# Altium schematic symbol library PIC10F206.Schlib: 1 symbol
Pins are listed as number, name and electrical type; pins without a type are passive.

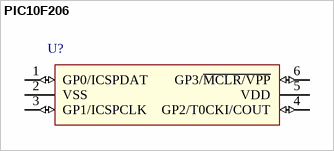
[diagram p0: symbol PIC10F206]

## PIC10F206
designator U?  (value not drawn)
pins: 1 GP0/ICSPDAT (io), 2 VSS (power), 3 GP1/ICSPCLK (io), 4 GP2/T0CKI/COUT (io), 5 VDD (power), 6 GP3/~{MCLR/VPP} (io)